# Altium schematic symbol library MICRO_SD.SchLib: 1 symbol
Pins are listed as number, name and electrical type; pins without a type are passive.

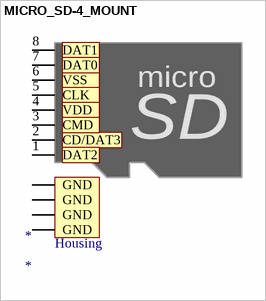
[diagram p0: symbol MICRO_SD-4_MOUNT]

## MICRO_SD-4_MOUNT
designator *
pins: 1 DAT2, 2 CD/DAT3, 3 CMD, 4 VDD, 5 CLK, 6 VSS, 7 DAT0, 8 DAT1, MOUNT1 GND, MOUNT2 GND, MOUNT3 GND, MOUNT4 GND
text: micro; SD; Housing